# Altium schematic symbol library Custom.SchLib: 6 symbols
Pins are listed as number, name and electrical type; pins without a type are passive.

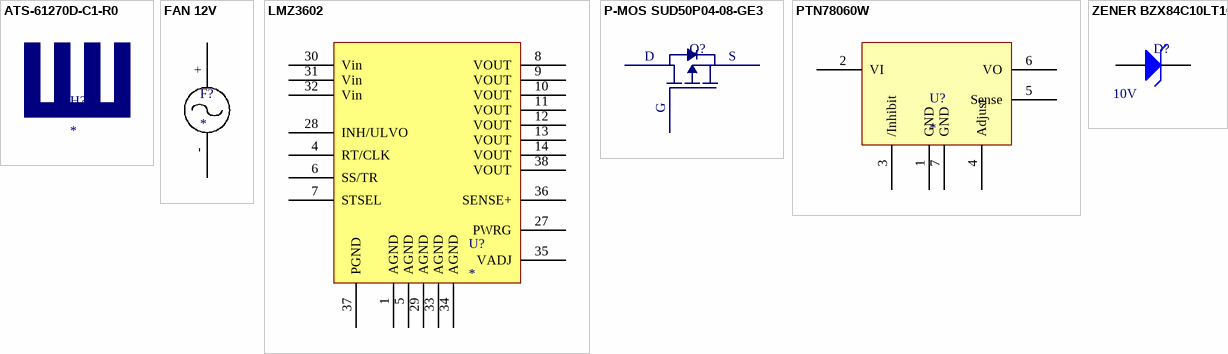
[diagram p0: symbols ATS-61270D-C1-R0 to ZENER BZX84C10LT1G]

## ATS-61270D-C1-R0
designator H?
27mm Heatsink
footprint 27mm heatsink

## FAN 12V
designator F?
footprint HDR1X2 (Connector; Header; 2 Position); pin to pad +>1 ->2
pins: +, -

## LMZ3602
designator U?
2A Power Module
footprint RKG39 QFN
pins: 1 AGND, 4 RT/CLK, 5 AGND, 6 SS/TR, 7 STSEL, 8 VOUT, 9 VOUT, 10 VOUT, 11 VOUT, 12 VOUT, 13 VOUT, 14 VOUT, 27 PWRG, 28 INH/ULVO, 29 AGND, 30 Vin, 31 Vin, 32 Vin, 33 AGND, 34 AGND, 35 VADJ, 36 SENSE+, 37 PGND, 38 VOUT

## P-MOS SUD50P04-08-GE3
designator Q?  (value not drawn)
Supplier 1: Mouser; Supplier 2: Allied
footprint TO-252
pins: D *, G *, S *

## PTN78060W
designator U?
Wide input volate regulator; Output Current: 3A
footprint EUW (ThroughHole TI regulator package)
footprint EUY (SMD TI regulator package)
pins: 1 GND, 2 VI, 3 /Inhibit, 4 Adjust, 5 Sense, 6 VO, 7 GND

## ZENER BZX84C10LT1G
designator D?  Vz: 10V  (hidden comment: *)
Zener Diode
footprint SOT23_N (SOT23, 3-Leads, Body 2.9x1.3mm, Pitch 0.95mm, Lead Span 2.3mm - Reverse Pinning, IPC Medium Density)
pins: 1 A, 3 K